# EAGLE library part TEXAS_INSTRUMENTS-SUPERVISOR_MONITOR-TPS3850G09QDRCRQ1 (library Module_ICs)
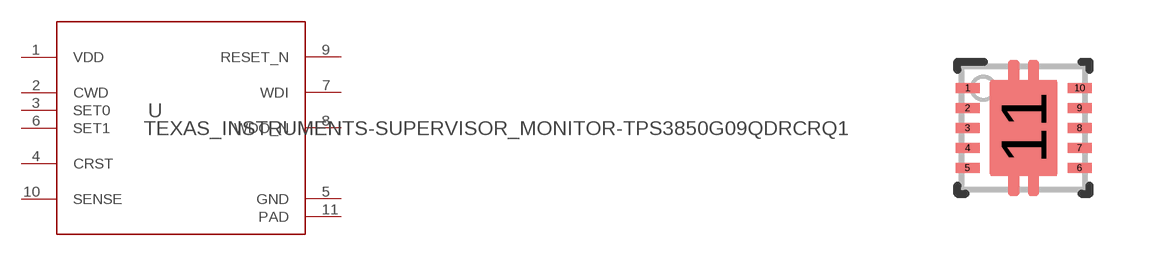
[diagram p21: symbol with the pads of TEXAS_INSTRUMENTS-SUPERVISOR_MONITOR-TPS3850G09QDRCRQ1; footprint TEXAS_INSTRUMENTS-SUPERVISOR_MONITOR-TPS3850G09QDRCRQ1]

Designator prefix U

## TEXAS_INSTRUMENTS-SUPERVISOR_MONITOR-TPS3850G09QDRCRQ1 (MANUFACTURER: Texas Instruments; PARTNUMBER: TPS3850G09QDRCRQ1; REFDES: RefDes; TYPE: TYPE; VALUE: Value)  [TEXAS_INSTRUMENTS-SUPERVISOR_MONITOR-TPS3850G09QDRCRQ1]
1  VDD  pwr
2  CWD  in
3  SET0  in
4  CRST  in
5  GND  pwr
6  SET1  in
7  WDI  in
8  WDO_N  out
9  RESET_N  out
10  SENSE  in
11  PAD  pwr

## Footprint TEXAS_INSTRUMENTS-SUPERVISOR_MONITOR-TPS3850G09QDRCRQ1 (pad centres in mm)
smd 0.6 x 0.25: 1 -1.4,1; 2 -1.4,0.5; 3 -1.4,0; 4 -1.4,-0.5; 5 -1.4,-1; 6 1.4,-1; 7 1.4,-0.5; 8 1.4,0; 9 1.4,0.5; 10 1.4,1
smd 1.65 x 2.4: 11 0,0